# EAGLE library part TLV2372 (library TLV237x)
Dual RRIO CMOS Op-Amp
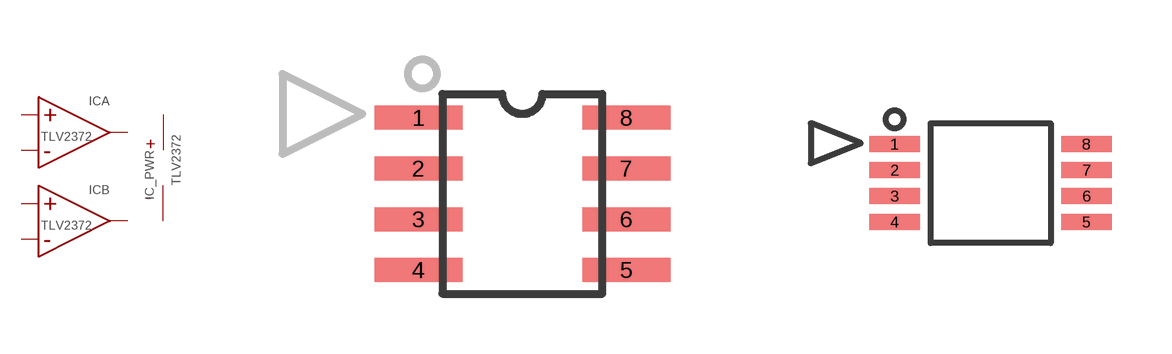
[diagram p1: symbol with the pads of SOIC8; footprints SOIC8, MSOP8]

Designator prefix IC; gates A=OPAMP B=OPAMP _PWR=PWR

## TLV2372ID  [SOIC8]
1  A:OUT  out
2  A:INV  in
3  A:NINV  in
4  _PWR:V-  pwr
5  B:NINV  in
6  B:INV  in
7  B:OUT  out
8  _PWR:V+  pwr

## TLV2372IDGK  [MSOP8]
Pads as for SOIC8

## Footprint SOIC8 (pad centres in mm)
smd 2.2 x 0.6: 1 -2.6,1.905; 2 -2.6,0.635; 3 -2.6,-0.635; 4 -2.6,-1.905; 5 2.6,-1.905; 6 2.6,-0.635; 7 2.6,0.635; 8 2.6,1.905

## Footprint MSOP8 (pad centres in mm)
smd 1.26 x 0.4: 1 -2.4,0.975; 2 -2.4,0.325; 3 -2.4,-0.325; 4 -2.4,-0.975; 5 2.4,-0.975; 6 2.4,-0.325; 7 2.4,0.325; 8 2.4,0.975